# Altium footprint library SON80P150X150X59-5N.PcbLib: 1 footprints
Each footprint in its own frame and in the unit in brackets; x right, y up, seen from the top. Pads: shape width x height; smd on the part's side, far side on the other; paste and mask are expansions set on the pad; w line width, h text height; cw(c..) or ccw(c..) is an arc to the next point about the centre after c.
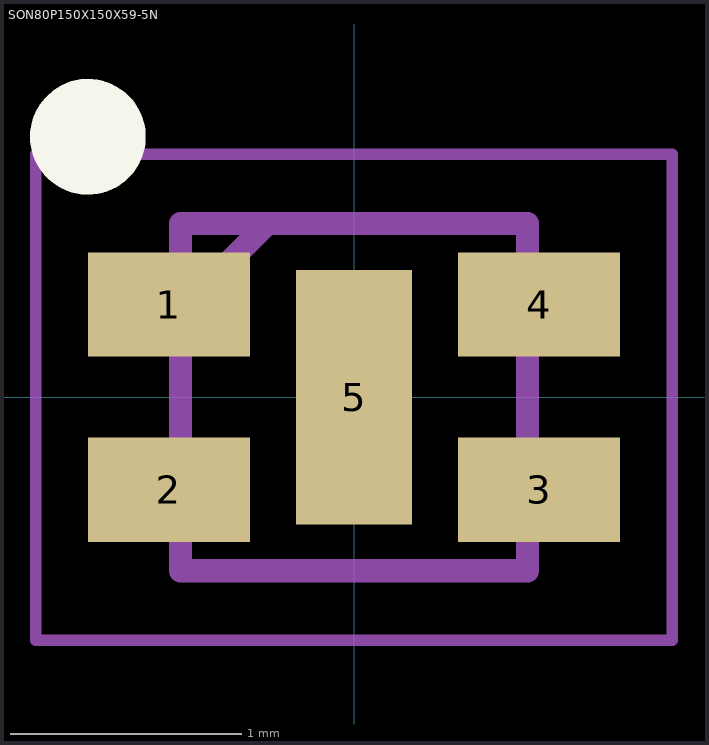
[diagram p0: the footprint, top view; thin cyan lines are the x and y axes]

## SON80P150X150X59-5N [mm]
pads (5):
  rect 0.7x0.45 smd: 1(-0.8,0.4) 2(-0.8,-0.4) 3(0.8,-0.4) 4(0.8,0.4)
  rect 0.5x1.1 smd: 5(0,0)
Top Overlay:
  circle w0.25: c-1.15,1.125 r0.125
Mechanical 15:
  lines w0.1: -0.75,0.375 -0.375,0.75 ; -0.75,-0.75 0.75,-0.75 0.75,0.75 -0.75,0.75 -0.75,-0.75
Mechanical 20:
  lines w0.05: -1.375,-1.05 1.375,-1.05 1.375,1.05 -1.375,1.05 -1.375,-1.05